# Altium schematic symbol library 7.1 - 模拟符号.SCHLIB: 82 symbols
Pins are listed as number, name and electrical type; pins without a type are passive.

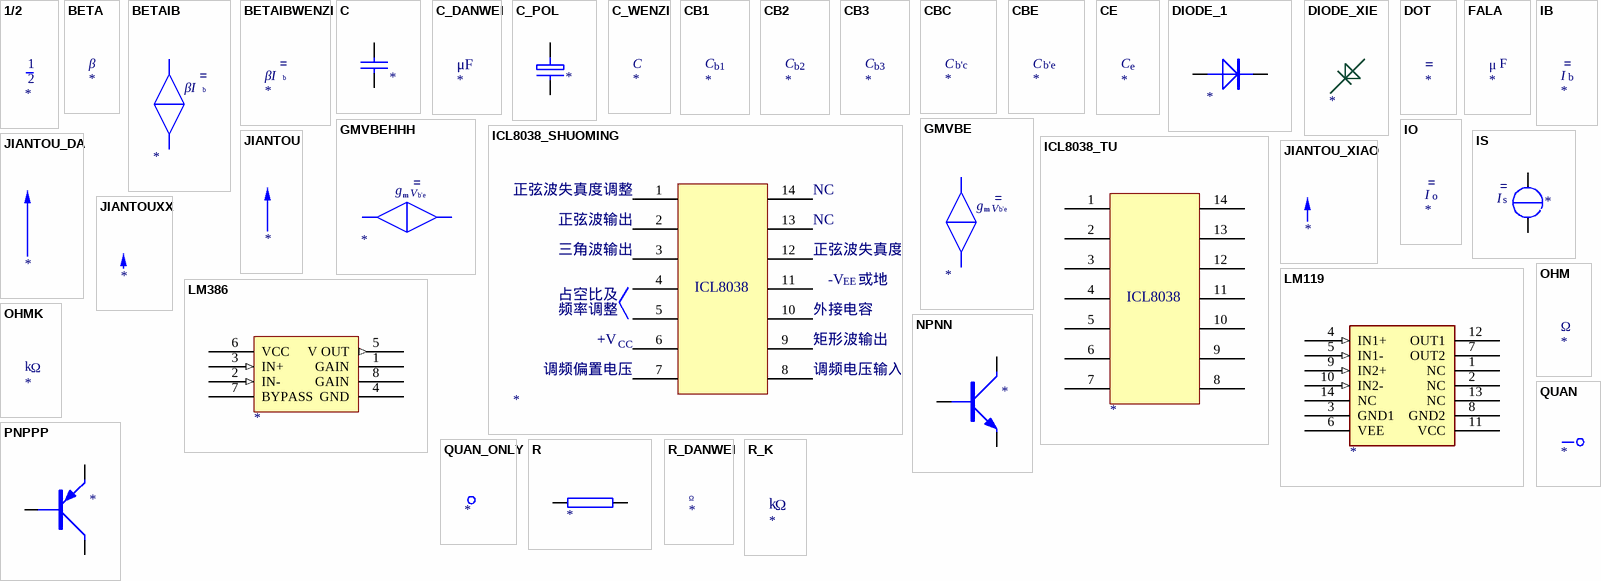
[diagram p0: symbols 1/2 to R_K]

## 1/2
designator ?
技术支持，联系售后: 封装库来自淘宝 ID：黄晶宝石; 技术支持，联系售后: https://shop463601444.taobao.com
text: 1; 2

## BETA
designator ?
text: β

## BETAIB
designator ?
text: βI; b

## BETAIBWENZI
designator ?
text: βI; b

## C
designator ?
pins: 1, 2

## C_DANWEI
designator ?
text: μF

## C_POL
designator ?
pins: 1, 2

## C_WENZI
designator ?
text: C

## CB1
designator ?
text: C; b1

## CB2
designator ?
text: C; b2

## CB3
designator ?
text: C; b3

## CBC
designator ?
text: C; b'c

## CBE
designator ?
text: C; b'e

## CE
designator ?
text: C; e

## DIODE_1
designator ?
pins: 1 A, 2 K

## DIODE_XIE
designator ?

## DOT
designator ?

## FALA
designator ?
text: F; μ

## GMVBE
designator ?
text: g; m; V; b'e

## GMVBEHHH
designator ?
text: g; m; V; b'e

## IB
designator ?
text: I; b

## ICL8038_SHUOMING
designator ?
pins: 1 74, 2 75, 3 76, 4 77, 5 78, 6 79, 7 80, 8 81, 9 82, 10 83, 11 84, 12 85, 13 86, 14 87
text: 正弦波失真度调整; NC; 正弦波输出; 三角波输出; -V; EE; 或地; ICL8038; 占空比及; 频率调整; 外接电容; +V; CC; 矩形波输出; 调频偏置电压; 调频电压输入端

## ICL8038_TU
designator ?
pins: 1 74, 2 75, 3 76, 4 77, 5 78, 6 79, 7 80, 8 81, 9 82, 10 83, 11 84, 12 85, 13 86, 14 87
text: ICL8038

## IO
designator ?
text: I; o

## IS
designator ?
pins: 1, 2
text: I; s

## JIANTOU
designator ?

## JIANTOU_DA
designator ?

## JIANTOU_XIAO
designator ?

## JIANTOUXX
designator ?

## LM119
designator ?
pins: 1 NC, 2 NC, 3 GND1 (power), 4 IN1+ (in), 5 IN1- (in), 6 VEE (power), 7 OUT2 (oc), 8 GND2 (power), 9 IN2+ (in), 10 IN2- (in), 11 VCC (power), 12 OUT1 (oc), 13 NC, 14 NC

## LM386
designator ?
pins: 1 GAIN, 2 IN- (in), 3 IN+ (in), 4 GND (power), 5 V OUT (out), 6 VCC, 7 BYPASS, 8 GAIN

## NPNN
designator ?
pins: 1 B, 2 C, 3 E

## OHM
designator ?
text: Ω

## OHMK
designator ?
text: k; Ω

## PNPPP
designator ?
pins: 1 B, 2 E, 3 C

## QUAN
designator ?

## QUAN_ONLY
designator ?

## R
designator ?
pins: 1, 2

## R_DANWEI
designator ?
text: Ω

## R_K
designator ?
text: k; Ω

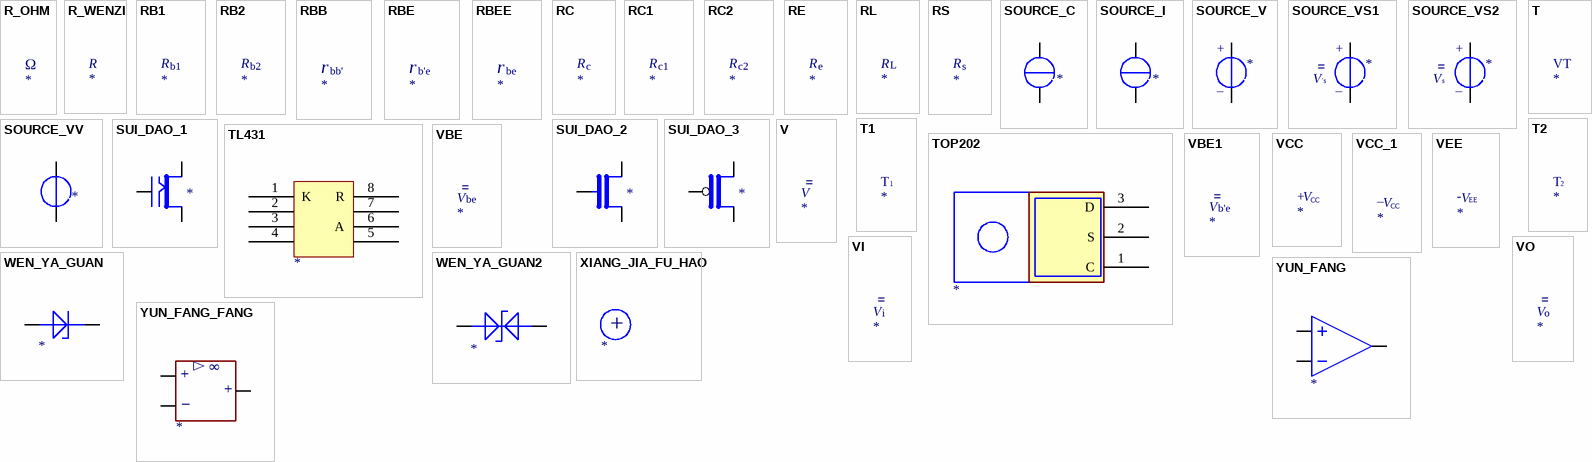
[diagram p1: symbols R_OHM to YUN_FANG_FANG]

## R_OHM
designator ?
text: Ω

## R_WENZI
designator ?
text: R

## RB1
designator ?
text: R; b1

## RB2
designator ?
text: R; b2

## RBB
designator ?
text: r; bb'

## RBE
designator ?
text: r; b'e

## RBEE
designator ?
text: r; be

## RC
designator ?
text: R; c

## RC1
designator ?
text: R; c1

## RC2
designator ?
text: R; c2

## RE
designator ?
text: R; e

## RL
designator ?
text: R; L

## RS
designator ?
text: R; s

## SOURCE_C
designator ?
pins: 1, 2

## SOURCE_I
designator ?
pins: 1, 2

## SOURCE_V
designator ?
pins: 1, 2
text: +; _

## SOURCE_VS1
designator ?
pins: 1, 2
text: +; V; 's; _

## SOURCE_VS2
designator ?
pins: 1, 2
text: +; V; s; _

## SOURCE_VV
designator ?
pins: 1, 2

## SUI_DAO_1
designator ?
pins: 67, 68, 69

## SUI_DAO_2
designator ?
pins: 67, 68, 69

## SUI_DAO_3
designator ?
pins: 67, 68, 69

## T
designator ?
text: VT

## T1
designator ?
text: T; 1

## T2
designator ?
text: T; 2

## TL431
designator ?
pins: 1 K, 2, 3, 4, 5, 6 A, 7, 8 R

## TOP202
designator ?
pins: 1 C, 2 S, 3 D

## V
designator ?

## VBE
designator ?
text: V; be

## VBE1
designator ?
text: V; b'e

## VCC
designator ?
text: +; V; CC

## VCC_1
designator ?
text: _; V; CC

## VEE
designator ?
text: -; V; EE

## VI
designator ?
text: V; i

## VO
designator ?
text: V; o

## WEN_YA_GUAN
designator ?
pins: 1 A, 2 K

## WEN_YA_GUAN2
designator ?
pins: 1 A, 2 K

## XIANG_JIA_FU_HAO
designator ?
text: +

## YUN_FANG
designator ?
pins: 1 IN-, 2 IN+, 3 OUT

## YUN_FANG_FANG
designator ?
pins: 42, 43, 44
text: △; ∞; +; _

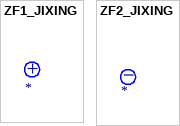
[diagram p2: symbols ZF1_JIXING to ZF2_JIXING]

## ZF1_JIXING
designator ?
text: +

## ZF2_JIXING
designator ?
封装库来自淘宝卖家 ID：黄晶宝石: 其他店铺购入均为盗版，不享受售后技术支持服务，请立即申请退款; 技术支持，联系售后: https://shop463601444.taobao.com
text: _